# EAGLE library part BME280 (library epifib)
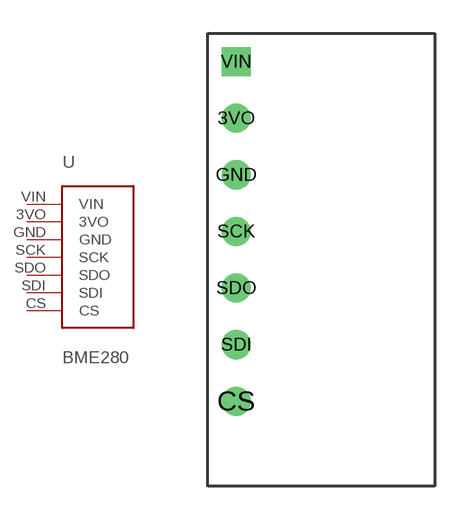
[diagram p1: symbol with the pads of BME280; footprint BME280]

Designator prefix U

## BME280  [BME280]
3VO  3VO
CS  CS
GND  GND
SCK  SCK
SDI  SDI
SDO  SDO
VIN  VIN

## Footprint BME280 (pad centres in mm)
drill 0.8: 3VO 1.27,-3.81; CS 1.27,-16.51; GND 1.27,-6.35; SCK 1.27,-8.89; SDI 1.27,-13.97; SDO 1.27,-11.43
drill 0.8 square: VIN 1.27,-1.27